# Altium schematic symbol library KSA1298YMTF.SchLib: 1 symbol
Pins are listed as number, name and electrical type; pins without a type are passive.

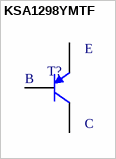
[diagram p0: symbol KSA1298YMTF]

## KSA1298YMTF
designator T?  (value not drawn)
footprint KSA1298YMTF
pins: 1 B, 2 E, 3 C